# EAGLE library part USB-TYPE-C (library Nixie_library)
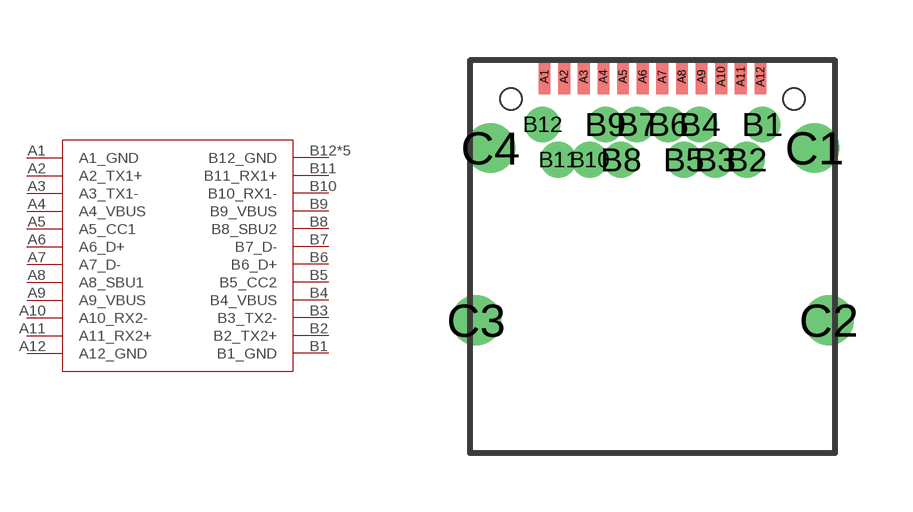
[diagram p0: symbol with the pads of USB-TYPE-C; footprint USB-TYPE-C]

Designator prefix -

## USB-TYPE-C  [USB-TYPE-C]
A1  A1_GND  pwr
A2  A2_TX1+
A3  A3_TX1-
A4  A4_VBUS  pwr
A5  A5_CC1
A6  A6_D+
A7  A7_D-
A8  A8_SBU1
A9  A9_VBUS  pwr
A10  A10_RX2-
A11  A11_RX2+
A12  A12_GND  pwr
B1  B1_GND  pwr
B2  B2_TX2+
B3  B3_TX2-
B4  B4_VBUS  pwr
B5  B5_CC2
B6  B6_D+
B7  B7_D-
B8  B8_SBU2
B9  B9_VBUS  pwr
B10  B10_RX1-
B11  B11_RX1+
B12  B12_GND  pwr
C1  B12_GND  pwr
C2  B12_GND  pwr
C3  B12_GND  pwr
C4  B12_GND  pwr

## Footprint USB-TYPE-C (pad centres in mm)
smd 0.3 x 0.9: A1 -2.75,2.57; A2 -2.25,2.57; A3 -1.75,2.57; A4 -1.25,2.57; A5 -0.75,2.57; A6 -0.25,2.57; A7 0.25,2.57; A8 0.75,2.57; A9 1.25,2.57; A10 1.75,2.57; A11 2.25,2.57; A12 2.75,2.57
drill 0.4 pad 0.65: B1 2.8,1.35; B2 2.4,0.45; B3 1.6,0.45; B4 1.2,1.35; B5 0.8,0.45; B6 0.4,1.35; B7 -0.4,1.35; B8 -0.8,0.45; B9 -1.2,1.35; B10 -1.6,0.45; B11 -2.4,0.45; B12 -2.8,1.35
drill 0.76 pad 1.2: C1 4.13,0.75; C2 4.49,-3.64; C3 -4.49,-3.64; C4 -4.13,0.75
hole 0.55 at -3.6,2
hole 0.55 at 3.6,2